# Altium footprint library ANTC3216X135N.PcbLib: 1 footprints
Each footprint in its own frame and in the unit in brackets; x right, y up, seen from the top. Pads: shape width x height; smd on the part's side, far side on the other; paste and mask are expansions set on the pad; w line width, h text height; cw(c..) or ccw(c..) is an arc to the next point about the centre after c.
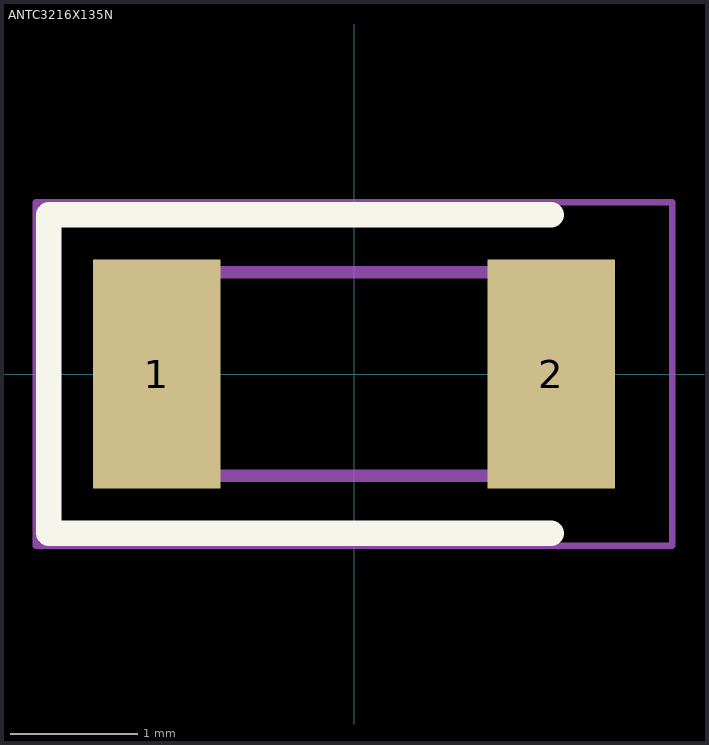
[diagram p0: the footprint, top view; thin cyan lines are the x and y axes]

## ANTC3216X135N [mm]
pads (2):
  rect 1x1.8 smd: 1(-1.55,0) 2(1.55,0)
Top Overlay:
  lines w0.2: 1.55,-1.25 -2.4,-1.25 -2.4,1.25 1.55,1.25
Mechanical 13:
  lines w0.05: -2.5,-1.35 -2.5,1.35 2.5,1.35 2.5,-1.35 -2.5,-1.35
  lines w0.1: -1.6,0.3 -1.1,0.8 ; -1.6,-0.8 -1.6,0.8 1.6,0.8 1.6,-0.8 -1.6,-0.8
3D body "ANT3216LL00R2400A.STEP": height 1.35, standoff 0, extent -1.616,-0.788 1.584,0.812